# Altium footprint library PEME25S5D.PcbLib: 1 footprints
Each footprint in its own frame and in the unit in brackets; x right, y up, seen from the top. Pads: shape width x height; smd on the part's side, far side on the other; paste and mask are expansions set on the pad; w line width, h text height; cw(c..) or ccw(c..) is an arc to the next point about the centre after c.
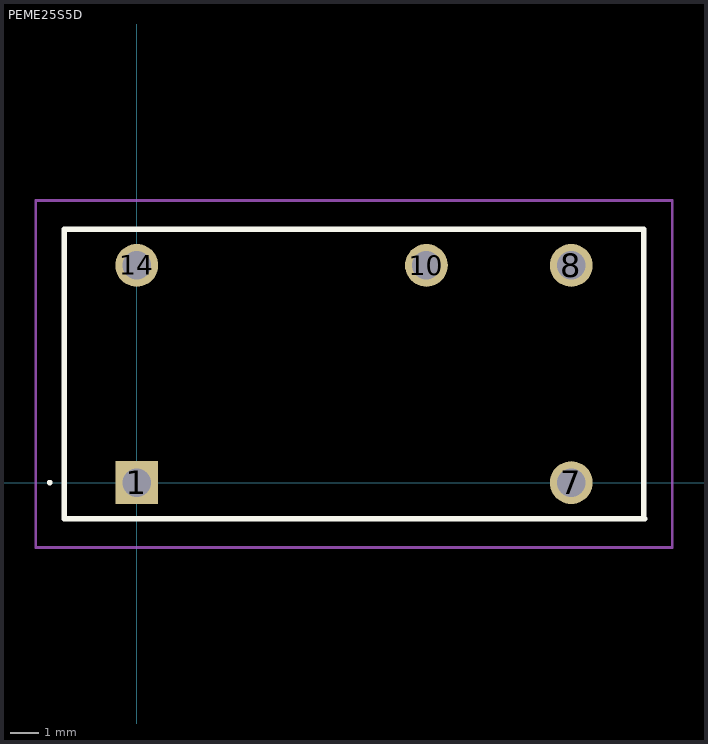
[diagram p0: the footprint, top view; thin cyan lines are the x and y axes]

## PEME25S5D [mm]
pads (5):
  rect 1.5x1.5 hole 1: 1(0,0)
  round 1.5 hole 1: 7(15.24,0) 8(15.24,7.62) 10(10.16,7.62) 14(0,7.62)
Top Overlay:
  lines w0.1: -3.1,0 -3.1,0 ; -3.1,0 ccw(c-3.05,0) -3,0 ; -3.1,0 cw(c-3.05,0) -3,0 ; -3,0 -3,0
  lines w0.2: 17.78,-1.27 17.78,8.89 -2.54,8.89 -2.54,-1.27 17.82,-1.27
Mechanical 15:
  lines w0.1: -2.54,-1.27 17.78,-1.27 17.78,8.89 -2.54,8.89 -2.54,-1.27
Mechanical 20:
  lines w0.1: -3.54,-2.27 18.78,-2.27 18.78,9.89 -3.54,9.89 -3.54,-2.27